# Altium footprint library Project.PcbLib: 46 footprints (part 1 of 3)
Each footprint in its own frame and in the unit in brackets; x right, y up, seen from the top. Pads: shape width x height; smd on the part's side, far side on the other; paste and mask are expansions set on the pad; w line width, h text height; cw(c..) or ccw(c..) is an arc to the next point about the centre after c.
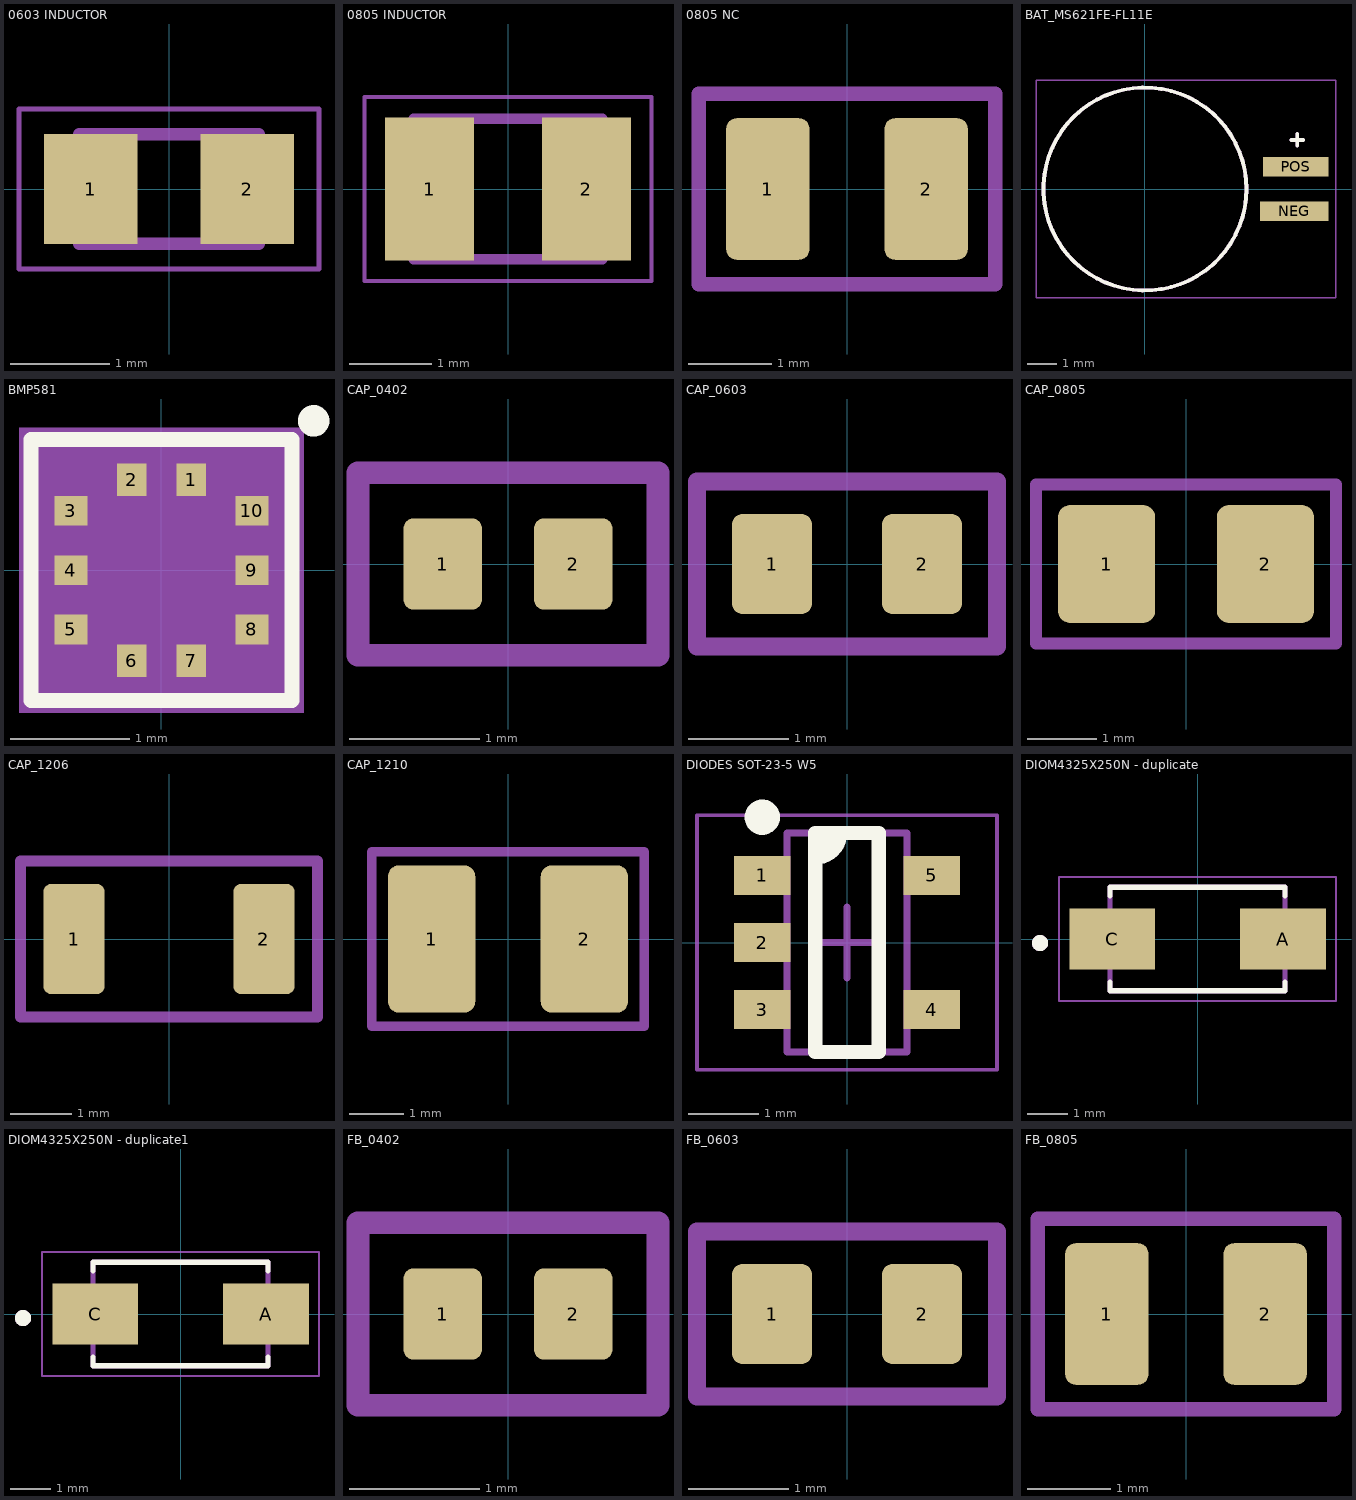
[diagram p0: the footprints below, top view; thin cyan lines are the x and y axes]

## 0603 INDUCTOR [mm]
pads (2):
  rect 0.94x1.11 smd: 1(-0.789,0) 2(0.789,0)
Mechanical 13:
  lines w0.127: -0.9,-0.55 -0.9,0.55 0.9,0.55 0.9,-0.55 -0.9,-0.55
Mechanical 15:
  lines w0.05: -1.508,-0.805 -1.508,0.805 1.508,0.805 1.508,-0.805 -1.508,-0.805
3D body "step_temp.STEP": height 1, standoff 0, extent -0.8,-0.4 0.8,0.4

## 0805 INDUCTOR [mm]
pads (2):
  rect 1.09x1.75 smd: 1(-0.959,0) 2(0.959,0)
Mechanical 13:
  lines w0.127: -1.15,-0.86 -1.15,0.86 1.15,0.86 1.15,-0.86 -1.15,-0.86
Mechanical 15:
  lines w0.05: -1.753,-1.123 -1.753,1.123 1.753,1.123 1.753,-1.123 -1.753,-1.123
3D body "LQW2BAN68NG00L.STEP": height 1.52, standoff 0, extent -1.045,-0.765 1.045,0.765

## 0805 NC [mm]
pads (2):
  rrect25% 1x1.7 smd: 1(-0.95,0) 2(0.95,0)
Mechanical 13:
  lines w0.175: -1.778,-1.143 1.778,-1.143 1.778,1.143 -1.778,1.143 -1.778,-1.143
  text "'.Designator'" at -5.665,-0.417 h1

## BAT_MS621FE-FL11E [mm]
height 2.8
pads (2):
  rect 2.3x0.65 smd: NEG(5,-0.75)
  rect 2.2x0.65 smd: POS(5.05,0.75)
Top Overlay:
  circle w0.127: c0,0 r3.4
  lines w0.127: 4.9,1.646 5.3,1.646 ; 5.1,1.446 5.1,1.846
Mechanical 13:
  circle w0.127: c0,0 r3.4
  lines w0.127: 4.9,1.646 5.3,1.646 ; 5.1,1.446 5.1,1.846
Mechanical 15:
  lines w0.05: -3.65,-3.65 6.4,-3.65 6.4,3.65 -3.65,3.65 -3.65,-3.65
3D body "step_temp.STEP": height 2.8, standoff 0, extent -3.4,-3.4 5.9,3.4

## BMP581 [mm]
pads (10):
  rect 0.25x0.275 smd paste-1: 1(0.25,0.763) 2(-0.25,0.763) 6(-0.25,-0.763) 7(0.25,-0.763)
  rect 0.275x0.25 smd paste-0.025: 3(-0.763,0.5) 4(-0.763,0) 5(-0.763,-0.5) 8(0.763,-0.5) 9(0.763,0) 10(0.763,0.5)
Top Overlay:
  circle w0.175: c1.282,1.258 r0.045
  lines w0.127: -1.1,-1.1 -1.1,1.1 1.1,1.1 1.1,-1.1 -1.1,-1.1
Top Paste:
  region: 0.35,-0.875 0.15,-0.875 0.15,-0.65 0.35,-0.65
  region: 0.35,0.65 0.15,0.65 0.15,0.875 0.35,0.875
  region: -0.15,-0.875 -0.35,-0.875 -0.35,-0.65 -0.15,-0.65
  region: -0.15,0.65 -0.35,0.65 -0.35,0.875 -0.15,0.875
Mechanical 13:
  lines w0.127: -1.05,-1.05 -1.05,1.05 1.05,1.05 1.05,-1.05 -1.05,-1.05
Mechanical 15:
  region: 1.2,-1.2 -1.2,-1.2 -1.2,1.2 1.2,1.2
3D body "step_temp.STEP": height 0.8, standoff 0, extent -1,-1 1,1
3D body "step_temp.STEP": height 0.8, standoff 0, extent -1,-1 1,1

## CAP_0402 [mm]
pads (2):
  rrect25% 0.6x0.7 smd: 1(-0.5,0) 2(0.5,0)
Mechanical 13:
  lines w0.175: -1.15,-0.7 -1.15,0.7 1.15,0.7 1.15,-0.7 -1.15,-0.7
  text "'.Designator'" at -5.665,-0.29 h1
3D body "C0402.step": height 0.37, standoff 0.01, extent -0.5,-0.265 0.5,0.265

## CAP_0603 [mm]
pads (2):
  rrect25% 0.8x1 smd: 1(-0.75,0) 2(0.75,0)
Mechanical 13:
  lines w0.175: -1.5,-0.825 -1.5,0.825 1.5,0.825 1.5,-0.825 -1.5,-0.825
  text "'.Designator'" at -5.665,-0.417 h1
3D body "C0603.step": height 0.51, standoff 0.01, extent -0.8,-0.4 0.8,0.4

## CAP_0805 [mm]
pads (2):
  rrect25% 1.4x1.7 smd: 1(-1.143,0) 2(1.143,0)
Mechanical 13:
  lines w0.175: -2.159,-1.143 2.159,-1.143 2.159,1.143 -2.159,1.143 -2.159,-1.143
  text "'.Designator'" at -5.665,-0.417 h1
3D body "C0805.stp": height 1.01, standoff 0.01, extent -1.15,-0.762 1.15,0.788

## CAP_1206 [mm]
pads (2):
  rrect25% 1x1.8 smd: 1(-1.55,0) 2(1.55,0)
Mechanical 13:
  lines w0.175: -2.425,-1.275 2.425,-1.275 2.425,1.275 -2.425,1.275 -2.425,-1.275
  text "'.Designator'" at -5.665,-0.417 h1
3D body "C1206.step": height 0.94, standoff 0, extent -1.6,-0.8 1.6,0.8

## CAP_1210 [mm]
height 1.35
pads (2):
  rrect25% 1.6x2.7 smd: 1(-1.4,0) 2(1.4,0)
Mechanical 13:
  lines w0.175: -2.5,-1.6 -2.5,1.6 2.5,1.6 2.5,-1.6 -2.5,-1.6
  text "'.Designator'" at -5.665,-0.417 h1
3D body "C1210.step": height 2.5, standoff 0, extent -1.6,-1.25 1.6,1.25

## DIODES SOT-23-5 W5 [mm] "SOT23, 5-Leads, Body 3.00x2.85mm, Pitch 0.95mm, IPC Medium Density"
height 1.3
pads (5):
  rect 0.8x0.55 smd: 1(-1.2,0.95) 2(-1.2,0) 3(-1.2,-0.95) 4(1.2,-0.95) 5(1.2,0.95)
Top Overlay:
  circle w0.25: c-1.2,1.775 r0.125
  region: -0.1,1.55 -0.4,1.55 -0.4,1.25 -0.45,1.2 -0.3,1.2 -0.2,1.3
  lines w0.2: -0.45,1.2 ccw(c-0.45,1.55) -0.1,1.55 ; -0.45,-1.55 -0.45,1.55 0.45,1.55 0.45,-1.55 -0.45,-1.55
Mechanical 13:
  lines w0.1: -0.85,-1.55 0.85,-1.55 0.85,1.55 -0.85,1.55 -0.85,-1.55
Mechanical 15:
  lines w0.05: -2.125,-1.8 2.125,-1.8 2.125,1.8 -2.125,1.8 -2.125,-1.8
  lines w0.1: -0.5,0 0.5,0 ; 0,-0.5 0,0.5
3D body "SOT-23-5.STEP": height 1.5, standoff 0, extent -1.41,-1.45 1.411,1.45

## DIOM4325X250N - duplicate [mm]
height 2.5
pads (2):
  rect 2.12x1.5 smd: A(2.115,0) C(-2.115,0)
Top Overlay:
  circle w0.2: c-3.9,-0.1 r0.1
  lines w0.127: -2.165,-1.07 -2.165,-1.28 2.165,-1.28 2.165,-1.07 ; -2.165,1.07 -2.165,1.28 2.165,1.28 2.165,1.07
Mechanical 13:
  circle w0.2: c-3.9,-0.1 r0.1
  lines w0.127: -2.165,-1.28 -2.165,1.28 2.165,1.28 2.165,-1.28 -2.165,-1.28
Mechanical 15:
  lines w0.05: -3.425,-1.53 -3.425,1.53 3.425,1.53 3.425,-1.53 -3.425,-1.53
3D body "step_temp.STEP": height 2.5, standoff 0, extent -2.57,-1.28 2.57,1.28

## DIOM4325X250N - duplicate1 [mm]
height 2.5
pads (2):
  rect 2.12x1.5 smd: A(2.115,0) C(-2.115,0)
Top Overlay:
  circle w0.2: c-3.9,-0.1 r0.1
  lines w0.127: -2.165,-1.07 -2.165,-1.28 2.165,-1.28 2.165,-1.07 ; -2.165,1.07 -2.165,1.28 2.165,1.28 2.165,1.07
Mechanical 13:
  circle w0.2: c-3.9,-0.1 r0.1
  lines w0.127: -2.165,-1.28 2.165,-1.28 2.165,1.28 -2.165,1.28 -2.165,-1.28
Mechanical 15:
  lines w0.05: -3.425,-1.53 3.425,-1.53 3.425,1.53 -3.425,1.53 -3.425,-1.53
3D body "step_temp.STEP": height 2.5, standoff 0, extent -2.57,-1.28 2.57,1.28

## FB_0402 [mm]
pads (2):
  rrect25% 0.6x0.7 smd: 1(-0.5,0) 2(0.5,0)
Mechanical 13:
  lines w0.175: -1.15,-0.7 1.15,-0.7 1.15,0.7 -1.15,0.7 -1.15,-0.7
  text "'.Designator'" at -5.665,-0.417 h1
3D body "FB0402.stp": height 0.51, standoff 0.01, extent -0.5,-0.25 0.5,0.25

## FB_0603 [mm]
pads (2):
  rrect25% 0.8x1 smd: 1(-0.75,0) 2(0.75,0)
Mechanical 13:
  lines w0.175: -1.5,-0.825 1.5,-0.825 1.5,0.825 -1.5,0.825 -1.5,-0.825
  text "'.Designator'" at -5.665,-0.417 h1
3D body "FB-0603.STEP": height 0.81, standoff 0.01, extent -0.8,-0.4 0.8,0.4

## FB_0805 [mm]
pads (2):
  rrect25% 1x1.7 smd: 1(-0.95,0) 2(0.95,0)
Mechanical 13:
  lines w0.175: -1.778,-1.143 1.778,-1.143 1.778,1.143 -1.778,1.143 -1.778,-1.143
  text "'.Designator'" at -5.665,-0.417 h1
3D body "FB_0805.STEP": height 0.86, standoff 0.01, extent -1,-0.625 1,0.625